# EAGLE library part STM8S003F3 (library SparkFun-DigitalIC)
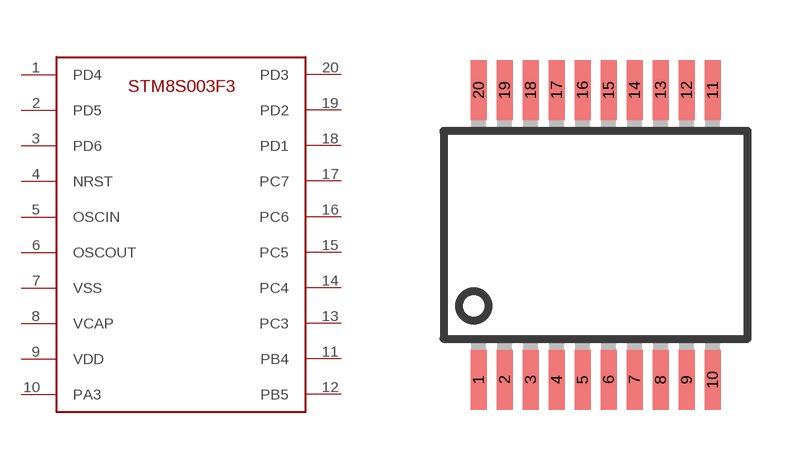
[diagram p101: symbol with the pads of SSOP20; footprint SSOP20]

Designator prefix -

## STM8S003F3  [SSOP20]
1  PD4
2  PD5
3  PD6
4  NRST
5  OSCIN
6  OSCOUT
7  VSS
8  VCAP
9  VDD
10  PA3
11  PB4
12  PB5
13  PC3
14  PC4
15  PC5
16  PC6
17  PC7
18  PD1
19  PD2
20  PD3

## Footprint SSOP20 (pad centres in mm)
Shrink Small Outline Package package type SS
smd 0.4 x 1.5: 1 -2.925,-3.625; 2 -2.275,-3.625; 3 -1.625,-3.625; 4 -0.975,-3.625; 5 -0.325,-3.625; 6 0.325,-3.625; 7 0.975,-3.625; 8 1.625,-3.625; 9 2.275,-3.625; 10 2.925,-3.625; 11 2.925,3.625; 12 2.275,3.625; 13 1.625,3.625; 14 0.975,3.625; 15 0.325,3.625; 16 -0.325,3.625; 17 -0.975,3.625; 18 -1.625,3.625; 19 -2.275,3.625; 20 -2.925,3.625